# Altium footprint library micronas.PCBLIB: 6 footprints
Each footprint in its own frame and in the unit in brackets; x right, y up, seen from the top. Pads: shape width x height; smd on the part's side, far side on the other; paste and mask are expansions set on the pad; w line width, h text height; cw(c..) or ccw(c..) is an arc to the next point about the centre after c.
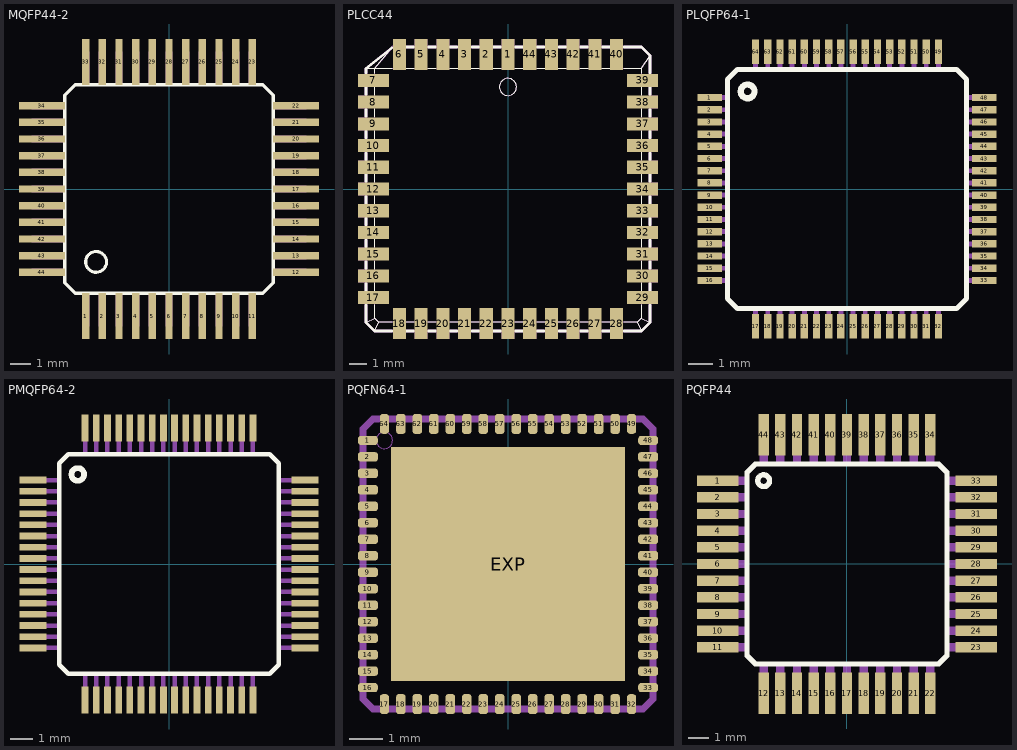
[diagram p0: the footprints below, top view; thin cyan lines are the x and y axes]

## MQFP44-2 [mm]
pads (44):
  rect 0.35x2.2 smd: 1(-4,-6.1) 2(-3.2,-6.1) 3(-2.4,-6.1) 4(-1.6,-6.1) 5(-0.8,-6.1) 6(0,-6.1) 7(0.8,-6.1) 8(1.6,-6.1) 9(2.4,-6.1) 10(3.2,-6.1) 11(4,-6.1) 23(4,6.1) 24(3.2,6.1) 25(2.4,6.1) 26(1.6,6.1) 27(0.8,6.1) 28(0,6.1) 29(-0.8,6.1) 30(-1.6,6.1) 31(-2.4,6.1) 32(-3.2,6.1) 33(-4,6.1)
  rect 2.2x0.35 smd: 12(6.1,-4) 13(6.1,-3.2) 14(6.1,-2.4) 15(6.1,-1.6) 16(6.1,-0.8) 17(6.1,0) 18(6.1,0.8) 19(6.1,1.6) 20(6.1,2.4) 21(6.1,3.2) 22(6.1,4) 34(-6.1,4) 35(-6.1,3.2) 36(-6.1,2.4) 37(-6.1,1.6) 38(-6.1,0.8) 39(-6.1,0) 40(-6.1,-0.8) 41(-6.1,-1.6) 42(-6.1,-2.4) 43(-6.1,-3.2) 44(-6.1,-4)
Top Overlay:
  circle w0.152: c-3.5,-3.5 r0.5
  lines w0.152: -5,-4.5 -4.5,-5 4.5,-5 5,-4.5 5,4.5 4.5,5 -4.5,5 -5,4.5 -5,-4.5
Mechanical 16:
  rectangle: -4.175,5 -3.825,6.6
  rectangle: -3.375,5 -3.025,6.6
  rectangle: -2.575,5 -2.225,6.6
  rectangle: -1.775,5 -1.425,6.6
  rectangle: -0.975,5 -0.625,6.6
  rectangle: -0.175,5 0.175,6.6
  rectangle: 0.625,5 0.975,6.6
  rectangle: 1.425,5 1.775,6.6
  rectangle: 2.225,5 2.575,6.6
  rectangle: 3.025,5 3.375,6.6
  rectangle: 3.825,5 4.175,6.6
  rectangle: 5,3.025 6.6,3.375
  rectangle: 5,3.825 6.6,4.175
  rectangle: 5,2.225 6.6,2.575
  rectangle: 5,1.425 6.6,1.775
  rectangle: 5,0.625 6.6,0.975
  rectangle: 5,-0.175 6.6,0.175
  rectangle: 5,-0.975 6.6,-0.625
  rectangle: 5,-1.775 6.6,-1.425
  rectangle: 5,-2.575 6.6,-2.225
  rectangle: 5,-3.375 6.6,-3.025
  rectangle: 5,-4.175 6.6,-3.825
  rectangle: 3.825,-6.6 4.175,-5
  rectangle: 3.025,-6.6 3.375,-5
  rectangle: 2.225,-6.6 2.575,-5
  rectangle: 1.425,-6.6 1.775,-5
  rectangle: 0.625,-6.6 0.975,-5
  rectangle: -0.175,-6.6 0.175,-5
  rectangle: -0.975,-6.6 -0.625,-5
  rectangle: -1.775,-6.6 -1.425,-4.975
  rectangle: -2.575,-6.6 -2.225,-5
  rectangle: -3.375,-6.6 -3.025,-5
  rectangle: -4.175,-6.6 -3.825,-5
  rectangle: -6.6,-4.175 -5,-3.825
  rectangle: -6.6,-3.375 -5,-3.025
  rectangle: -6.6,-2.575 -5,-2.225
  rectangle: -6.6,-0.975 -5,-0.625
  rectangle: -6.6,-1.775 -5,-1.425
  rectangle: -6.6,0.625 -5,0.975
  rectangle: -6.6,-0.175 -5,0.175
  rectangle: -6.6,2.225 -5,2.575
  rectangle: -6.6,1.425 -5,1.775
  rectangle: -6.6,3.825 -5,4.175
  rectangle: -6.6,3.025 -5,3.375

## PLCC44 [mm]
pads (44):
  rect 0.76x1.8 smd: 1(0,7.86) 2(-1.27,7.86) 3(-2.54,7.86) 4(-3.81,7.86) 5(-5.08,7.86) 6(-6.35,7.86) 18(-6.35,-7.86) 19(-5.08,-7.86) 20(-3.81,-7.86) 21(-2.54,-7.86) 22(-1.27,-7.86) 23(0,-7.86) 24(1.27,-7.86) 25(2.54,-7.86) 26(3.81,-7.86) 27(5.08,-7.86) 28(6.35,-7.86) 40(6.35,7.86) 41(5.08,7.86) 42(3.81,7.86) 43(2.54,7.86) 44(1.27,7.86)
  rect 1.8x0.76 smd: 7(-7.86,6.35) 8(-7.86,5.08) 9(-7.86,3.81) 10(-7.86,2.54) 11(-7.86,1.27) 12(-7.86,0) 13(-7.86,-1.27) 14(-7.86,-2.54) 15(-7.86,-3.81) 16(-7.86,-5.08) 17(-7.86,-6.35) 29(7.86,-6.35) 30(7.86,-5.08) 31(7.86,-3.81) 32(7.86,-2.54) 33(7.86,-1.27) 34(7.86,0) 35(7.86,1.27) 36(7.86,2.54) 37(7.86,3.81) 38(7.86,5.08) 39(7.86,6.35)
Top Overlay:
  circle w0.051: c0,5.96 r0.5
  lines w0.051: -8.29,-7.79 -7.79,-7.54 ; -8.29,7.04 -7.79,7.04 ; -7.79,-8.29 -7.54,-7.79 ; -7.79,-6.75 -7.79,-7.54 ; -7.79,-5.95 -7.79,-5.48 ; -7.79,-4.68 -7.79,-4.21 ; -7.79,-3.41 -7.79,-2.94 ; -7.79,-2.14 -7.79,-1.67 ; -7.79,-0.87 -7.79,-0.4 ; -7.79,0.4 -7.79,0.87 ; -7.79,1.67 -7.79,2.14 ; -7.79,2.94 -7.79,3.41 ; -7.79,4.21 -7.79,4.68 ; -7.79,5.48 -7.79,5.95 ; -7.79,6.75 -7.79,7.04 ; -6.75,-7.79 -7.54,-7.79 ; -6.75,7.04 -7.79,7.04 ; -6.75,8.27 -7.79,7.04 ; -5.95,-7.79 -5.48,-7.79 ; -5.95,7.04 -5.48,7.04 ; -4.68,-7.79 -4.21,-7.79 ; -4.68,7.04 -4.21,7.04 ; -3.41,-7.79 -2.94,-7.79 ; -3.41,7.04 -2.94,7.04 ; -2.14,-7.79 -1.67,-7.79 ; -2.14,7.04 -1.67,7.04 ; -0.87,-7.79 -0.4,-7.79 ; -0.87,7.04 -0.4,7.04 ; 0.4,-7.79 0.87,-7.79 ; 0.4,7.04 0.87,7.04 ; 1.67,-7.79 2.14,-7.79 ; 1.67,7.04 2.14,7.04 ; 2.94,-7.79 3.41,-7.79 ; 2.94,7.04 3.41,7.04 ; 4.21,-7.79 4.68,-7.79 ; 4.21,7.04 4.68,7.04 ; 5.48,-7.79 5.95,-7.79 ; 5.48,7.04 5.95,7.04 ; 6.75,-7.79 7.54,-7.79 ; 6.75,7.04 7.79,7.04 ; 7.79,-8.29 7.54,-7.79 ; 7.79,-6.75 7.79,-7.54 ; 7.79,-5.95 7.79,-5.48 ; 7.79,-4.68 7.79,-4.21 ; 7.79,-3.41 7.79,-2.94 ; 7.79,-2.14 7.79,-1.67 ; 7.79,-0.87 7.79,-0.4 ; 7.79,0.4 7.79,0.87 ; 7.79,1.67 7.79,2.14 ; 7.79,2.94 7.79,3.41 ; 7.79,4.21 7.79,4.68 ; 7.79,5.48 7.79,5.95 ; 7.79,6.75 7.79,7.04 ; 8.29,-7.79 7.79,-7.54 ; 8.29,7.79 7.79,7.04 ; -7.79,-7.54 -7.54,-7.79 ; 7.54,-7.79 7.79,-7.54
  lines w0.152: -8.29,-6.79 -8.29,-7.79 -7.79,-8.29 -6.79,-8.29 ; -8.29,-5.91 -8.29,-5.52 ; -8.29,-4.64 -8.29,-4.25 ; -8.29,-3.37 -8.29,-2.98 ; -8.29,-2.1 -8.29,-1.71 ; -8.29,-0.83 -8.29,-0.44 ; -8.29,0.44 -8.29,0.83 ; -8.29,1.71 -8.29,2.1 ; -8.29,2.98 -8.29,3.37 ; -8.29,4.25 -8.29,4.64 ; -8.29,5.52 -8.29,5.91 ; -8.29,6.79 -8.29,7.04 -6.79,8.24 ; -5.91,-8.29 -5.52,-8.29 ; -5.91,8.29 -5.52,8.29 ; -4.64,-8.29 -4.25,-8.29 ; -4.64,8.29 -4.25,8.29 ; -3.37,-8.29 -2.98,-8.29 ; -3.37,8.29 -2.98,8.29 ; -2.1,-8.29 -1.71,-8.29 ; -2.1,8.29 -1.71,8.29 ; -0.83,-8.29 -0.44,-8.29 ; -0.83,8.29 -0.44,8.29 ; 0.44,-8.29 0.83,-8.29 ; 0.44,8.29 0.83,8.29 ; 1.71,-8.29 2.1,-8.29 ; 1.71,8.29 2.1,8.29 ; 2.98,-8.29 3.37,-8.29 ; 2.98,8.29 3.37,8.29 ; 4.25,-8.29 4.64,-8.29 ; 4.25,8.29 4.64,8.29 ; 5.52,-8.29 5.91,-8.29 ; 5.52,8.29 5.91,8.29 ; 6.79,-8.29 7.79,-8.29 8.29,-7.79 8.29,-6.79 ; 6.79,8.29 7.79,8.29 8.29,7.79 8.29,6.79 ; 8.29,-5.91 8.29,-5.52 ; 8.29,-4.64 8.29,-4.25 ; 8.29,-3.37 8.29,-2.98 ; 8.29,-2.1 8.29,-1.71 ; 8.29,-0.83 8.29,-0.44 ; 8.29,0.44 8.29,0.83 ; 8.29,1.71 8.29,2.1 ; 8.29,2.98 8.29,3.37 ; 8.29,4.25 8.29,4.64 ; 8.29,5.52 8.29,5.91
Mechanical 16:
  circle w0.051: c0,5.96 r0.5
  rectangle: 8.29,2.16 8.76,2.92
  rectangle: 8.29,0.89 8.76,1.65
  rectangle: 8.29,-0.38 8.76,0.38
  rectangle: 8.29,-1.65 8.76,-0.89
  rectangle: 8.29,-2.92 8.76,-2.16
  rectangle: 8.29,-4.19 8.76,-3.43
  rectangle: 8.29,-5.46 8.76,-4.7
  rectangle: 3.43,-8.76 4.19,-8.29
  rectangle: 2.16,-8.76 2.92,-8.29
  rectangle: 0.89,-8.76 1.65,-8.29
  rectangle: -0.38,-8.76 0.38,-8.29
  rectangle: -1.65,-8.76 -0.89,-8.29
  rectangle: -2.92,-8.76 -2.16,-8.29
  rectangle: -6.73,-8.76 -5.97,-8.29
  rectangle: -8.76,4.7 -8.29,5.46
  rectangle: -8.76,3.43 -8.29,4.19
  rectangle: -8.76,2.16 -8.29,2.92
  rectangle: -8.76,0.89 -8.29,1.65
  rectangle: -8.76,-0.38 -8.29,0.38
  rectangle: -8.76,-1.65 -8.29,-0.89
  rectangle: -8.76,-2.92 -8.29,-2.16
  rectangle: 3.43,8.29 4.19,8.76
  rectangle: 2.16,8.29 2.92,8.76
  rectangle: 0.89,8.29 1.65,8.76
  rectangle: -0.38,8.29 0.38,8.76
  rectangle: -1.65,8.29 -0.89,8.76
  rectangle: -2.92,8.29 -2.16,8.76
  rectangle: -6.73,8.29 -5.97,8.76
  rectangle: 8.29,3.43 8.76,4.19
  rectangle: 8.29,4.7 8.76,5.46
  rectangle: -8.76,-4.19 -8.29,-3.43
  rectangle: -8.76,-5.46 -8.29,-4.7
  rectangle: 4.7,8.29 5.46,8.76
  rectangle: 5.97,8.29 6.73,8.76
  rectangle: -4.19,8.29 -3.43,8.76
  rectangle: -5.46,8.29 -4.7,8.76
  rectangle: -8.76,-6.73 -8.29,-5.97
  rectangle: -5.46,-8.76 -4.7,-8.29
  rectangle: -4.19,-8.76 -3.43,-8.29
  rectangle: 4.7,-8.76 5.46,-8.29
  rectangle: 5.97,-8.76 6.73,-8.29
  rectangle: 8.29,-6.73 8.76,-5.97
  rectangle: 8.29,5.97 8.76,6.73
  rectangle: -8.76,5.97 -8.29,6.73
  lines w0.051: -8.29,-7.79 -7.79,-7.54 ; -8.29,7.04 -7.79,7.04 ; -7.79,-8.29 -7.54,-7.79 ; -6.73,8.29 -7.79,7.04 ; 7.79,-8.29 7.54,-7.79 ; 8.29,-7.79 7.79,-7.54 ; 8.29,7.79 7.79,7.04 ; -7.79,-7.54 -7.54,-7.79 ; -7.79,-7.54 -7.79,7.04 ; -7.79,7.04 7.79,7.04 ; -7.54,-7.79 7.54,-7.79 ; 7.54,-7.79 7.79,-7.54 ; 7.79,-7.54 7.79,7.04
  lines w0.152: -8.29,-7.79 -7.79,-8.29 7.79,-8.29 8.29,-7.79 8.29,7.79 7.79,8.29 -6.73,8.29 -8.29,7.04 -8.29,-7.79

## PLQFP64-1 [mm]
pads (64):
  rect 1x0.3 smd: 1(-5.625,3.75) 2(-5.625,3.25) 3(-5.625,2.75) 4(-5.625,2.25) 5(-5.625,1.75) 6(-5.625,1.25) 7(-5.625,0.75) 8(-5.625,0.25) 9(-5.625,-0.25) 10(-5.625,-0.75) 11(-5.625,-1.25) 12(-5.625,-1.75) 13(-5.625,-2.25) 14(-5.625,-2.75) 15(-5.625,-3.25) 16(-5.625,-3.75) 33(5.625,-3.75) 34(5.625,-3.25) 35(5.625,-2.75) 36(5.625,-2.25) 37(5.625,-1.75) 38(5.625,-1.25) 39(5.625,-0.75) 40(5.625,-0.25) 41(5.625,0.25) 42(5.625,0.75) 43(5.625,1.25) 44(5.625,1.75) 45(5.625,2.25) 46(5.625,2.75) 47(5.625,3.25) 48(5.625,3.75)
  rect 0.3x1 smd: 17(-3.75,-5.625) 18(-3.25,-5.625) 19(-2.75,-5.625) 20(-2.25,-5.625) 21(-1.75,-5.625) 22(-1.25,-5.625) 23(-0.75,-5.625) 24(-0.25,-5.625) 25(0.25,-5.625) 26(0.75,-5.625) 27(1.25,-5.625) 28(1.75,-5.625) 29(2.25,-5.625) 30(2.75,-5.625) 31(3.25,-5.625) 32(3.75,-5.625) 49(3.75,5.625) 50(3.25,5.625) 51(2.75,5.625) 52(2.25,5.625) 53(1.75,5.625) 54(1.25,5.625) 55(0.75,5.625) 56(0.25,5.625) 57(-0.25,5.625) 58(-0.75,5.625) 59(-1.25,5.625) 60(-1.75,5.625) 61(-2.25,5.625) 62(-2.75,5.625) 63(-3.25,5.625) 64(-3.75,5.625)
Top Overlay:
  circle w0.254: c-4.075,4 r0.283
  lines w0.203: -4.9,-4.5 -4.5,-4.9 4.5,-4.9 4.9,-4.5 4.9,4.5 4.5,4.9 -4.5,4.9 -4.9,4.5 -4.9,-4.5
Top Solder:
  rectangle: -6.15,3.575 -5.1,3.925
  rectangle: -6.15,3.075 -5.1,3.425
  rectangle: -6.15,2.575 -5.1,2.925
  rectangle: -6.15,2.075 -5.1,2.425
  rectangle: -6.15,1.575 -5.1,1.925
  rectangle: -6.15,1.075 -5.1,1.425
  rectangle: -6.15,0.575 -5.1,0.925
  rectangle: -6.15,0.075 -5.1,0.425
  rectangle: -6.15,-0.425 -5.1,-0.075
  rectangle: -6.15,-0.925 -5.1,-0.575
  rectangle: -6.15,-1.425 -5.1,-1.075
  rectangle: -6.15,-1.925 -5.1,-1.575
  rectangle: -6.15,-2.425 -5.1,-2.075
  rectangle: -6.15,-2.925 -5.1,-2.575
  rectangle: -6.15,-3.425 -5.1,-3.075
  rectangle: -6.15,-3.925 -5.1,-3.575
  region: -3.575,-6.15 -3.575,-5.1 -3.925,-5.1 -3.925,-6.15
  region: -3.075,-6.15 -3.075,-5.1 -3.425,-5.1 -3.425,-6.15
  region: -2.575,-6.15 -2.575,-5.1 -2.925,-5.1 -2.925,-6.15
  region: -2.075,-6.15 -2.075,-5.1 -2.425,-5.1 -2.425,-6.15
  region: -1.575,-6.15 -1.575,-5.1 -1.925,-5.1 -1.925,-6.15
  region: -1.075,-6.15 -1.075,-5.1 -1.425,-5.1 -1.425,-6.15
  region: -0.575,-6.15 -0.575,-5.1 -0.925,-5.1 -0.925,-6.15
  region: -0.075,-6.15 -0.075,-5.1 -0.425,-5.1 -0.425,-6.15
  region: 0.425,-6.15 0.425,-5.1 0.075,-5.1 0.075,-6.15
  region: 0.925,-6.15 0.925,-5.1 0.575,-5.1 0.575,-6.15
  region: 1.425,-6.15 1.425,-5.1 1.075,-5.1 1.075,-6.15
  region: 1.925,-6.15 1.925,-5.1 1.575,-5.1 1.575,-6.15
  region: 2.425,-6.15 2.425,-5.1 2.075,-5.1 2.075,-6.15
  region: 2.925,-6.15 2.925,-5.1 2.575,-5.1 2.575,-6.15
  region: 3.425,-6.15 3.425,-5.1 3.075,-5.1 3.075,-6.15
  region: 3.925,-6.15 3.925,-5.1 3.575,-5.1 3.575,-6.15
  region: 6.15,-3.575 5.1,-3.575 5.1,-3.925 6.15,-3.925
  region: 6.15,-3.075 5.1,-3.075 5.1,-3.425 6.15,-3.425
  region: 6.15,-2.575 5.1,-2.575 5.1,-2.925 6.15,-2.925
  region: 6.15,-2.075 5.1,-2.075 5.1,-2.425 6.15,-2.425
  region: 6.15,-1.575 5.1,-1.575 5.1,-1.925 6.15,-1.925
  region: 6.15,-1.075 5.1,-1.075 5.1,-1.425 6.15,-1.425
  region: 6.15,-0.575 5.1,-0.575 5.1,-0.925 6.15,-0.925
  region: 6.15,-0.075 5.1,-0.075 5.1,-0.425 6.15,-0.425
  region: 6.15,0.425 5.1,0.425 5.1,0.075 6.15,0.075
  region: 6.15,0.925 5.1,0.925 5.1,0.575 6.15,0.575
  region: 6.15,1.425 5.1,1.425 5.1,1.075 6.15,1.075
  region: 6.15,1.925 5.1,1.925 5.1,1.575 6.15,1.575
  region: 6.15,2.425 5.1,2.425 5.1,2.075 6.15,2.075
  region: 6.15,2.925 5.1,2.925 5.1,2.575 6.15,2.575
  region: 6.15,3.425 5.1,3.425 5.1,3.075 6.15,3.075
  region: 6.15,3.925 5.1,3.925 5.1,3.575 6.15,3.575
  region: 3.575,6.15 3.575,5.1 3.925,5.1 3.925,6.15
  region: 3.075,6.15 3.075,5.1 3.425,5.1 3.425,6.15
  region: 2.575,6.15 2.575,5.1 2.925,5.1 2.925,6.15
  region: 2.075,6.15 2.075,5.1 2.425,5.1 2.425,6.15
  region: 1.575,6.15 1.575,5.1 1.925,5.1 1.925,6.15
  region: 1.075,6.15 1.075,5.1 1.425,5.1 1.425,6.15
  region: 0.575,6.15 0.575,5.1 0.925,5.1 0.925,6.15
  region: 0.075,6.15 0.075,5.1 0.425,5.1 0.425,6.15
  region: -0.425,6.15 -0.425,5.1 -0.075,5.1 -0.075,6.15
  region: -0.925,6.15 -0.925,5.1 -0.575,5.1 -0.575,6.15
  region: -1.425,6.15 -1.425,5.1 -1.075,5.1 -1.075,6.15
  region: -1.925,6.15 -1.925,5.1 -1.575,5.1 -1.575,6.15
  region: -2.425,6.15 -2.425,5.1 -2.075,5.1 -2.075,6.15
  region: -2.925,6.15 -2.925,5.1 -2.575,5.1 -2.575,6.15
  region: -3.425,6.15 -3.425,5.1 -3.075,5.1 -3.075,6.15
  region: -3.925,6.15 -3.925,5.1 -3.575,5.1 -3.575,6.15
Mechanical 16:
  rectangle: -6,3.65 -5,3.85
  rectangle: -6,3.15 -5,3.35
  rectangle: -6,2.65 -5,2.85
  rectangle: -6,2.15 -5,2.35
  rectangle: -6,1.65 -5,1.85
  rectangle: -6,1.15 -5,1.35
  rectangle: -6,0.65 -5,0.85
  rectangle: -6,0.15 -5,0.35
  rectangle: -6,-0.35 -5,-0.15
  rectangle: -6,-0.85 -5,-0.65
  rectangle: -6,-1.35 -5,-1.15
  rectangle: -6,-1.85 -5,-1.65
  rectangle: -6,-2.35 -5,-2.15
  rectangle: -6,-2.85 -5,-2.65
  rectangle: -6,-3.35 -5,-3.15
  rectangle: -6,-3.85 -5,-3.65
  region: -3.65,-6 -3.65,-5 -3.85,-5 -3.85,-6
  region: -3.15,-6 -3.15,-5 -3.35,-5 -3.35,-6
  region: -2.65,-6 -2.65,-5 -2.85,-5 -2.85,-6
  region: -2.15,-6 -2.15,-5 -2.35,-5 -2.35,-6
  region: -1.65,-6 -1.65,-5 -1.85,-5 -1.85,-6
  region: -1.15,-6 -1.15,-5 -1.35,-5 -1.35,-6
  region: -0.65,-6 -0.65,-5 -0.85,-5 -0.85,-6
  region: -0.15,-6 -0.15,-5 -0.35,-5 -0.35,-6
  region: 0.35,-6 0.35,-5 0.15,-5 0.15,-6
  region: 0.85,-6 0.85,-5 0.65,-5 0.65,-6
  region: 1.35,-6 1.35,-5 1.15,-5 1.15,-6
  region: 1.85,-6 1.85,-5 1.65,-5 1.65,-6
  region: 2.35,-6 2.35,-5 2.15,-5 2.15,-6
  region: 2.85,-6 2.85,-5 2.65,-5 2.65,-6
  region: 3.35,-6 3.35,-5 3.15,-5 3.15,-6
  region: 3.85,-6 3.85,-5 3.65,-5 3.65,-6
  region: 6,-3.65 5,-3.65 5,-3.85 6,-3.85
  region: 6,-3.15 5,-3.15 5,-3.35 6,-3.35
  region: 6,-2.65 5,-2.65 5,-2.85 6,-2.85
  region: 6,-2.15 5,-2.15 5,-2.35 6,-2.35
  region: 6,-1.65 5,-1.65 5,-1.85 6,-1.85
  region: 6,-1.15 5,-1.15 5,-1.35 6,-1.35
  region: 6,-0.65 5,-0.65 5,-0.85 6,-0.85
  region: 6,-0.15 5,-0.15 5,-0.35 6,-0.35
  region: 6,0.35 5,0.35 5,0.15 6,0.15
  region: 6,0.85 5,0.85 5,0.65 6,0.65
  region: 6,1.35 5,1.35 5,1.15 6,1.15
  region: 6,1.85 5,1.85 5,1.65 6,1.65
  region: 6,2.35 5,2.35 5,2.15 6,2.15
  region: 6,2.85 5,2.85 5,2.65 6,2.65
  region: 6,3.35 5,3.35 5,3.15 6,3.15
  region: 6,3.85 5,3.85 5,3.65 6,3.65
  region: 3.65,6 3.65,5 3.85,5 3.85,6
  region: 3.15,6 3.15,5 3.35,5 3.35,6
  region: 2.65,6 2.65,5 2.85,5 2.85,6
  region: 2.15,6 2.15,5 2.35,5 2.35,6
  region: 1.65,6 1.65,5 1.85,5 1.85,6
  region: 1.15,6 1.15,5 1.35,5 1.35,6
  region: 0.65,6 0.65,5 0.85,5 0.85,6
  region: 0.15,6 0.15,5 0.35,5 0.35,6
  region: -0.35,6 -0.35,5 -0.15,5 -0.15,6
  region: -0.85,6 -0.85,5 -0.65,5 -0.65,6
  region: -1.35,6 -1.35,5 -1.15,5 -1.15,6
  region: -1.85,6 -1.85,5 -1.65,5 -1.65,6
  region: -2.35,6 -2.35,5 -2.15,5 -2.15,6
  region: -2.85,6 -2.85,5 -2.65,5 -2.65,6
  region: -3.35,6 -3.35,5 -3.15,5 -3.15,6
  region: -3.85,6 -3.85,5 -3.65,5 -3.65,6

## PMQFP64-2 [mm]
pads (64):
  rect 1.2x0.3 smd: 1(-6.075,3.75) 2(-6.075,3.25) 3(-6.075,2.75) 4(-6.075,2.25) 5(-6.075,1.75) 6(-6.075,1.25) 7(-6.075,0.75) 8(-6.075,0.25) 9(-6.075,-0.25) 10(-6.075,-0.75) 11(-6.075,-1.25) 12(-6.075,-1.75) 13(-6.075,-2.25) 14(-6.075,-2.75) 15(-6.075,-3.25) 16(-6.075,-3.75) 33(6.075,-3.75) 34(6.075,-3.25) 35(6.075,-2.75) 36(6.075,-2.25) 37(6.075,-1.75) 38(6.075,-1.25) 39(6.075,-0.75) 40(6.075,-0.25) 41(6.075,0.25) 42(6.075,0.75) 43(6.075,1.25) 44(6.075,1.75) 45(6.075,2.25) 46(6.075,2.75) 47(6.075,3.25) 48(6.075,3.75)
  rect 0.3x1.2 smd: 17(-3.75,-6.075) 18(-3.25,-6.075) 19(-2.75,-6.075) 20(-2.25,-6.075) 21(-1.75,-6.075) 22(-1.25,-6.075) 23(-0.75,-6.075) 24(-0.25,-6.075) 25(0.25,-6.075) 26(0.75,-6.075) 27(1.25,-6.075) 28(1.75,-6.075) 29(2.25,-6.075) 30(2.75,-6.075) 31(3.25,-6.075) 32(3.75,-6.075) 49(3.75,6.075) 50(3.25,6.075) 51(2.75,6.075) 52(2.25,6.075) 53(1.75,6.075) 54(1.25,6.075) 55(0.75,6.075) 56(0.25,6.075) 57(-0.25,6.075) 58(-0.75,6.075) 59(-1.25,6.075) 60(-1.75,6.075) 61(-2.25,6.075) 62(-2.75,6.075) 63(-3.25,6.075) 64(-3.75,6.075)
Top Overlay:
  circle w0.254: c-4.075,4 r0.283
  lines w0.203: -4.9,-4.5 -4.5,-4.9 4.5,-4.9 4.9,-4.5 4.9,4.5 4.5,4.9 -4.5,4.9 -4.9,4.5 -4.9,-4.5
Top Solder:
  rectangle: -6.7,3.575 -5.45,3.925
  rectangle: -6.7,3.075 -5.45,3.425
  rectangle: -6.7,2.575 -5.45,2.925
  rectangle: -6.7,2.075 -5.45,2.425
  rectangle: -6.7,1.575 -5.45,1.925
  rectangle: -6.7,1.075 -5.45,1.425
  rectangle: -6.7,0.575 -5.45,0.925
  rectangle: -6.7,0.075 -5.45,0.425
  rectangle: -6.7,-0.425 -5.45,-0.075
  rectangle: -6.7,-0.925 -5.45,-0.575
  rectangle: -6.7,-1.425 -5.45,-1.075
  rectangle: -6.7,-1.925 -5.45,-1.575
  rectangle: -6.7,-2.425 -5.45,-2.075
  rectangle: -6.7,-2.925 -5.45,-2.575
  rectangle: -6.7,-3.425 -5.45,-3.075
  rectangle: -6.7,-3.925 -5.45,-3.575
  region: -3.575,-6.7 -3.575,-5.45 -3.925,-5.45 -3.925,-6.7
  region: -3.075,-6.7 -3.075,-5.45 -3.425,-5.45 -3.425,-6.7
  region: -2.575,-6.7 -2.575,-5.45 -2.925,-5.45 -2.925,-6.7
  region: -2.075,-6.7 -2.075,-5.45 -2.425,-5.45 -2.425,-6.7
  region: -1.575,-6.7 -1.575,-5.45 -1.925,-5.45 -1.925,-6.7
  region: -1.075,-6.7 -1.075,-5.45 -1.425,-5.45 -1.425,-6.7
  region: -0.575,-6.7 -0.575,-5.45 -0.925,-5.45 -0.925,-6.7
  region: -0.075,-6.7 -0.075,-5.45 -0.425,-5.45 -0.425,-6.7
  region: 0.425,-6.7 0.425,-5.45 0.075,-5.45 0.075,-6.7
  region: 0.925,-6.7 0.925,-5.45 0.575,-5.45 0.575,-6.7
  region: 1.425,-6.7 1.425,-5.45 1.075,-5.45 1.075,-6.7
  region: 1.925,-6.7 1.925,-5.45 1.575,-5.45 1.575,-6.7
  region: 2.425,-6.7 2.425,-5.45 2.075,-5.45 2.075,-6.7
  region: 2.925,-6.7 2.925,-5.45 2.575,-5.45 2.575,-6.7
  region: 3.425,-6.7 3.425,-5.45 3.075,-5.45 3.075,-6.7
  region: 3.925,-6.7 3.925,-5.45 3.575,-5.45 3.575,-6.7
  region: 6.7,-3.575 5.45,-3.575 5.45,-3.925 6.7,-3.925
  region: 6.7,-3.075 5.45,-3.075 5.45,-3.425 6.7,-3.425
  region: 6.7,-2.575 5.45,-2.575 5.45,-2.925 6.7,-2.925
  region: 6.7,-2.075 5.45,-2.075 5.45,-2.425 6.7,-2.425
  region: 6.7,-1.575 5.45,-1.575 5.45,-1.925 6.7,-1.925
  region: 6.7,-1.075 5.45,-1.075 5.45,-1.425 6.7,-1.425
  region: 6.7,-0.575 5.45,-0.575 5.45,-0.925 6.7,-0.925
  region: 6.7,-0.075 5.45,-0.075 5.45,-0.425 6.7,-0.425
  region: 6.7,0.425 5.45,0.425 5.45,0.075 6.7,0.075
  region: 6.7,0.925 5.45,0.925 5.45,0.575 6.7,0.575
  region: 6.7,1.425 5.45,1.425 5.45,1.075 6.7,1.075
  region: 6.7,1.925 5.45,1.925 5.45,1.575 6.7,1.575
  region: 6.7,2.425 5.45,2.425 5.45,2.075 6.7,2.075
  region: 6.7,2.925 5.45,2.925 5.45,2.575 6.7,2.575
  region: 6.7,3.425 5.45,3.425 5.45,3.075 6.7,3.075
  region: 6.7,3.925 5.45,3.925 5.45,3.575 6.7,3.575
  region: 3.575,6.7 3.575,5.45 3.925,5.45 3.925,6.7
  region: 3.075,6.7 3.075,5.45 3.425,5.45 3.425,6.7
  region: 2.575,6.7 2.575,5.45 2.925,5.45 2.925,6.7
  region: 2.075,6.7 2.075,5.45 2.425,5.45 2.425,6.7
  region: 1.575,6.7 1.575,5.45 1.925,5.45 1.925,6.7
  region: 1.075,6.7 1.075,5.45 1.425,5.45 1.425,6.7
  region: 0.575,6.7 0.575,5.45 0.925,5.45 0.925,6.7
  region: 0.075,6.7 0.075,5.45 0.425,5.45 0.425,6.7
  region: -0.425,6.7 -0.425,5.45 -0.075,5.45 -0.075,6.7
  region: -0.925,6.7 -0.925,5.45 -0.575,5.45 -0.575,6.7
  region: -1.425,6.7 -1.425,5.45 -1.075,5.45 -1.075,6.7
  region: -1.925,6.7 -1.925,5.45 -1.575,5.45 -1.575,6.7
  region: -2.425,6.7 -2.425,5.45 -2.075,5.45 -2.075,6.7
  region: -2.925,6.7 -2.925,5.45 -2.575,5.45 -2.575,6.7
  region: -3.425,6.7 -3.425,5.45 -3.075,5.45 -3.075,6.7
  region: -3.925,6.7 -3.925,5.45 -3.575,5.45 -3.575,6.7
Mechanical 16:
  rectangle: -6.6,3.65 -4.9,3.85
  rectangle: -6.6,3.15 -4.9,3.35
  rectangle: -6.6,2.65 -4.9,2.85
  rectangle: -6.6,2.15 -4.9,2.35
  rectangle: -6.6,1.65 -4.9,1.85
  rectangle: -6.6,1.15 -4.9,1.35
  rectangle: -6.6,0.65 -4.9,0.85
  rectangle: -6.6,0.15 -4.9,0.35
  rectangle: -6.6,-0.35 -4.9,-0.15
  rectangle: -6.6,-0.85 -4.9,-0.65
  rectangle: -6.6,-1.35 -4.9,-1.15
  rectangle: -6.6,-1.85 -4.9,-1.65
  rectangle: -6.6,-2.35 -4.9,-2.15
  rectangle: -6.6,-2.85 -4.9,-2.65
  rectangle: -6.6,-3.35 -4.9,-3.15
  rectangle: -6.6,-3.85 -4.9,-3.65
  region: -3.65,-6.6 -3.65,-4.9 -3.85,-4.9 -3.85,-6.6
  region: -3.15,-6.6 -3.15,-4.9 -3.35,-4.9 -3.35,-6.6
  region: -2.65,-6.6 -2.65,-4.9 -2.85,-4.9 -2.85,-6.6
  region: -2.15,-6.6 -2.15,-4.9 -2.35,-4.9 -2.35,-6.6
  region: -1.65,-6.6 -1.65,-4.9 -1.85,-4.9 -1.85,-6.6
  region: -1.15,-6.6 -1.15,-4.9 -1.35,-4.9 -1.35,-6.6
  region: -0.65,-6.6 -0.65,-4.9 -0.85,-4.9 -0.85,-6.6
  region: -0.15,-6.6 -0.15,-4.9 -0.35,-4.9 -0.35,-6.6
  region: 0.35,-6.6 0.35,-4.9 0.15,-4.9 0.15,-6.6
  region: 0.85,-6.6 0.85,-4.9 0.65,-4.9 0.65,-6.6
  region: 1.35,-6.6 1.35,-4.9 1.15,-4.9 1.15,-6.6
  region: 1.85,-6.6 1.85,-4.9 1.65,-4.9 1.65,-6.6
  region: 2.35,-6.6 2.35,-4.9 2.15,-4.9 2.15,-6.6
  region: 2.85,-6.6 2.85,-4.9 2.65,-4.9 2.65,-6.6
  region: 3.35,-6.6 3.35,-4.9 3.15,-4.9 3.15,-6.6
  region: 3.85,-6.6 3.85,-4.9 3.65,-4.9 3.65,-6.6
  region: 6.6,-3.65 4.9,-3.65 4.9,-3.85 6.6,-3.85
  region: 6.6,-3.15 4.9,-3.15 4.9,-3.35 6.6,-3.35
  region: 6.6,-2.65 4.9,-2.65 4.9,-2.85 6.6,-2.85
  region: 6.6,-2.15 4.9,-2.15 4.9,-2.35 6.6,-2.35
  region: 6.6,-1.65 4.9,-1.65 4.9,-1.85 6.6,-1.85
  region: 6.6,-1.15 4.9,-1.15 4.9,-1.35 6.6,-1.35
  region: 6.6,-0.65 4.9,-0.65 4.9,-0.85 6.6,-0.85
  region: 6.6,-0.15 4.9,-0.15 4.9,-0.35 6.6,-0.35
  region: 6.6,0.35 4.9,0.35 4.9,0.15 6.6,0.15
  region: 6.6,0.85 4.9,0.85 4.9,0.65 6.6,0.65
  region: 6.6,1.35 4.9,1.35 4.9,1.15 6.6,1.15
  region: 6.6,1.85 4.9,1.85 4.9,1.65 6.6,1.65
  region: 6.6,2.35 4.9,2.35 4.9,2.15 6.6,2.15
  region: 6.6,2.85 4.9,2.85 4.9,2.65 6.6,2.65
  region: 6.6,3.35 4.9,3.35 4.9,3.15 6.6,3.15
  region: 6.6,3.85 4.9,3.85 4.9,3.65 6.6,3.65
  region: 3.65,6.6 3.65,4.9 3.85,4.9 3.85,6.6
  region: 3.15,6.6 3.15,4.9 3.35,4.9 3.35,6.6
  region: 2.65,6.6 2.65,4.9 2.85,4.9 2.85,6.6
  region: 2.15,6.6 2.15,4.9 2.35,4.9 2.35,6.6
  region: 1.65,6.6 1.65,4.9 1.85,4.9 1.85,6.6
  region: 1.15,6.6 1.15,4.9 1.35,4.9 1.35,6.6
  region: 0.65,6.6 0.65,4.9 0.85,4.9 0.85,6.6
  region: 0.15,6.6 0.15,4.9 0.35,4.9 0.35,6.6
  region: -0.35,6.6 -0.35,4.9 -0.15,4.9 -0.15,6.6
  region: -0.85,6.6 -0.85,4.9 -0.65,4.9 -0.65,6.6
  region: -1.35,6.6 -1.35,4.9 -1.15,4.9 -1.15,6.6
  region: -1.85,6.6 -1.85,4.9 -1.65,4.9 -1.65,6.6
  region: -2.35,6.6 -2.35,4.9 -2.15,4.9 -2.15,6.6
  region: -2.85,6.6 -2.85,4.9 -2.65,4.9 -2.65,6.6
  region: -3.35,6.6 -3.35,4.9 -3.15,4.9 -3.15,6.6
  region: -3.85,6.6 -3.85,4.9 -3.65,4.9 -3.65,6.6

## PQFN64-1 [mm]
pads (65):
  rrect70% 0.6x0.28 smd: 1(-4.25,3.75) 16(-4.25,-3.75) 33(4.25,-3.75) 48(4.25,3.75)
  rrect50% 0.6x0.28 smd: 2(-4.25,3.25) 3(-4.25,2.75) 4(-4.25,2.25) 5(-4.25,1.75) 6(-4.25,1.25) 7(-4.25,0.75) 8(-4.25,0.25) 9(-4.25,-0.25) 10(-4.25,-0.75) 11(-4.25,-1.25) 12(-4.25,-1.75) 13(-4.25,-2.25) 14(-4.25,-2.75) 15(-4.25,-3.25) 34(4.25,-3.25) 35(4.25,-2.75) 36(4.25,-2.25) 37(4.25,-1.75) 38(4.25,-1.25) 39(4.25,-0.75) 40(4.25,-0.25) 41(4.25,0.25) 42(4.25,0.75) 43(4.25,1.25) 44(4.25,1.75) 45(4.25,2.25) 46(4.25,2.75) 47(4.25,3.25)
  rrect70% 0.28x0.6 smd: 17(-3.75,-4.25) 32(3.75,-4.25) 49(3.75,4.25) 64(-3.75,4.25)
  rrect50% 0.28x0.6 smd: 18(-3.25,-4.25) 19(-2.75,-4.25) 20(-2.25,-4.25) 21(-1.75,-4.25) 22(-1.25,-4.25) 23(-0.75,-4.25) 24(-0.25,-4.25) 25(0.25,-4.25) 26(0.75,-4.25) 27(1.25,-4.25) 28(1.75,-4.25) 29(2.25,-4.25) 30(2.75,-4.25) 31(3.25,-4.25) 50(3.25,4.25) 51(2.75,4.25) 52(2.25,4.25) 53(1.75,4.25) 54(1.25,4.25) 55(0.75,4.25) 56(0.25,4.25) 57(-0.25,4.25) 58(-0.75,4.25) 59(-1.25,4.25) 60(-1.75,4.25) 61(-2.25,4.25) 62(-2.75,4.25) 63(-3.25,4.25)
  rect 7.1x7.1 smd: EXP(0,0)
Top Solder:
  drawing of 64 lines, arcs and shapes, not listed
Mechanical 16:
  circle w0: c-3.75,3.75 r0.25
  lines w0.203: -4.4,-4.1 -4.4,4.1 -4.1,4.4 4.1,4.4 4.4,4.1 4.4,-4.1 4.1,-4.4 -4.1,-4.4 -4.4,-4.1

## PQFP44 [mm]
pads (44):
  rect 2x0.5 smd: 1(-6.2,4) 2(-6.2,3.2) 3(-6.2,2.4) 4(-6.2,1.6) 5(-6.2,0.8) 6(-6.2,0) 7(-6.2,-0.8) 8(-6.2,-1.6) 9(-6.2,-2.4) 10(-6.2,-3.2) 11(-6.2,-4) 23(6.2,-4) 24(6.2,-3.2) 25(6.2,-2.4) 26(6.2,-1.6) 27(6.2,-0.8) 28(6.2,0) 29(6.2,0.8) 30(6.2,1.6) 31(6.2,2.4) 32(6.2,3.2) 33(6.2,4)
  rect 0.5x2 smd: 12(-4,-6.2) 13(-3.2,-6.2) 14(-2.4,-6.2) 15(-1.6,-6.2) 16(-0.8,-6.2) 17(0,-6.2) 18(0.8,-6.2) 19(1.6,-6.2) 20(2.4,-6.2) 21(3.2,-6.2) 22(4,-6.2) 34(4,6.2) 35(3.2,6.2) 36(2.4,6.2) 37(1.6,6.2) 38(0.8,6.2) 39(0,6.2) 40(-0.8,6.2) 41(-1.6,6.2) 42(-2.4,6.2) 43(-3.2,6.2) 44(-4,6.2)
Top Overlay:
  circle w0.254: c-4,4 r0.283
  lines w0.254: -4.8,-4.4 -4.4,-4.8 4.4,-4.8 4.8,-4.4 4.8,4.4 4.4,4.8 -4.4,4.8 -4.8,4.4 -4.8,-4.4
Mechanical 16:
  rectangle: -6.7,3.8 -4.9,4.2
  rectangle: -6.7,3 -4.9,3.4
  rectangle: -6.7,2.2 -4.9,2.6
  rectangle: -6.7,1.4 -4.9,1.8
  rectangle: -6.7,0.6 -4.9,1
  rectangle: -6.7,-0.2 -4.9,0.2
  rectangle: -6.7,-1 -4.9,-0.6
  rectangle: -6.7,-1.8 -4.9,-1.4
  rectangle: -6.7,-2.6 -4.9,-2.2
  rectangle: -6.7,-3.4 -4.9,-3
  rectangle: -6.7,-4.2 -4.9,-3.8
  rectangle: -4.2,-6.7 -3.8,-4.9
  rectangle: -3.4,-6.7 -3,-4.9
  rectangle: -2.6,-6.7 -2.2,-4.9
  rectangle: -1.8,-6.7 -1.4,-4.9
  rectangle: -1,-6.7 -0.6,-4.9
  rectangle: -0.2,-6.7 0.2,-4.9
  rectangle: 0.6,-6.7 1,-4.9
  rectangle: 1.4,-6.7 1.8,-4.9
  rectangle: 2.2,-6.7 2.6,-4.9
  rectangle: 3,-6.7 3.4,-4.9
  rectangle: 3.8,-6.7 4.2,-4.9
  rectangle: 4.9,-4.2 6.7,-3.8
  rectangle: 4.9,-3.4 6.7,-3
  rectangle: 4.9,-2.6 6.7,-2.2
  rectangle: 4.9,-1.8 6.7,-1.4
  rectangle: 4.9,-1 6.7,-0.6
  rectangle: 4.9,-0.2 6.7,0.2
  rectangle: 4.9,0.6 6.7,1
  rectangle: 4.9,1.4 6.7,1.8
  rectangle: 4.9,2.2 6.7,2.6
  rectangle: 4.9,3 6.7,3.4
  rectangle: 4.9,3.8 6.7,4.2
  rectangle: 3.8,4.9 4.2,6.7
  rectangle: 3,4.9 3.4,6.7
  rectangle: 2.2,4.9 2.6,6.7
  rectangle: 1.4,4.9 1.8,6.7
  rectangle: 0.6,4.9 1,6.7
  rectangle: -0.2,4.9 0.2,6.7
  rectangle: -1,4.9 -0.6,6.7
  rectangle: -1.8,4.9 -1.4,6.7
  rectangle: -2.6,4.9 -2.2,6.7
  rectangle: -3.4,4.9 -3,6.7
  rectangle: -4.2,4.9 -3.8,6.7